# Altium schematic symbol library KAF31ER71H474KL.SchLib: 1 symbol
Pins are listed as number, name and electrical type; pins without a type are passive.

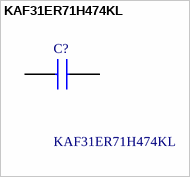
[diagram p0: symbol KAF31ER71H474KL]

## KAF31ER71H474KL
designator C?
Multilayer Ceramic Capacitors MLCC - SMD/SMT 50V .47uF X7R 1206 10% AEC-Q200 FLEXITERM; Manufacturer_Name: Kyocera AVX; Geometry.Height: 1.52mm; Mouser Part Number: 581-KAF31ER71H474KL; Mouser Price/Stock: https://www.mouser.co.uk/ProductDetail/KYOCERA-AVX/KAF31ER71H474KL?qs=Jm2GQyTW%2FbjNZ75fHRRUJA%3D%3D; Manufacturer_Part_Number: KAF31ER71H474KL; Datasheet Link: https://datasheets.kyocera-avx.com/AutoMLCCKAF.pdf
footprint CAPC3216X152N
pins: 1, 2